# Altium schematic symbol library Diode.SchLib: 7 symbols
Pins are listed as number, name and electrical type; pins without a type are passive.

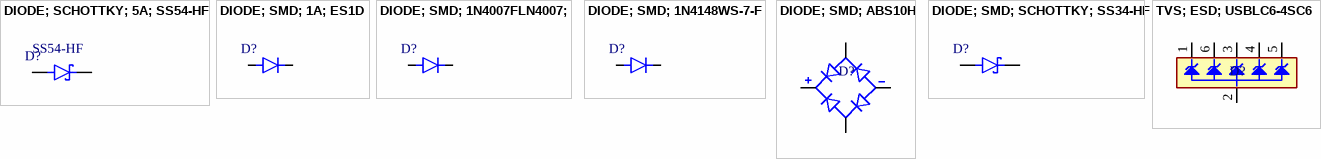
[diagram p0: symbols DIODE; SCHOTTKY; 5A; SS54-HF to TVS; ESD; USBLC6-4SC6]

## DIODE; SCHOTTKY; 5A; SS54-HF
designator D?, comment Manufacturer Part Number: SS54-HF  (hidden comment: Diode 40 V 5A Surface Mount DO-214AC (SMA))
Diode Schottky Si 40V 5A 2-Pin SMA T/R; Manufacturer: Comchip; Supplier: Digikey; Supplier Part Number: 641-SS54-HFCT-ND; RoHS: No; Category: LDO; Stock: 4664; Pricing: 1=0.6, 10=0.523, 100=0.3956, 500=0.31764, 1000=0.24715, 2000=0.23963 (USD); RoHS Compliant: Yes; ComponentLink1URL: http://www.comchiptech.com/admin/files/product/20190806165140.pdf?src-supplier=Digikey; ComponentLink1Description: http://www.comchiptech.com/admin/files/product/20190806165140.pdf?src-supplier=Digikey
footprint SMD-DO-214AC-214-CT
pins: 1 K, 2 A

## DIODE; SMD; 1A; ES1D
designator D?, comment Diode 200 V 1A Surface Mount DO-214AC (SMA)  (value not drawn)
Rectifier Diode Switching 200V 1A 35ns 2-Pin SMA; Manufacturer: Taiwan Semiconductor; Manufacturer Part Number: ES1D; Max Surge Current: 30A; Max Reverse Current: 5uA; Polarity: Standard; Value: 7pF; Forward Voltage: 920mV; Supplier: Digikey; Supplier Part Number: 1801-ES1DCT-ND; RoHS: Yes; Category: Rectifier Diodes; Stock: 13509; Pricing: 1=0.28, 10=0.19, 100=0.1376, 500=0.10806, 1000=0.09085, 2000=0.08883 (USD); Mounting Technology: Surface Mount; Case/Package: SMA; Pins: 2; Weight: 68mg; Min Operating Temperature: -55°C; Max Operating Temperature: 150°C; Package Quantity: 7500; Packaging: Tape and Reel; Recovery Time: 35ns; Forward Current: 1A; Max Repetitive Reverse Voltage (Vrrm): 200V; Reverse Recovery Time: 35ns; Voltage Rating (DC): 200V; Current Rating: 1A; Output Current: 1A; Reverse Voltage: 200V; Length: 4.6mm; Width: 2.83mm; Height: 2.5mm; Reach SVHC Compliant: Yes; Lead Free: Lead Free; RoHS Compliant: Yes; ComponentLink1URL: https://datasheet.ciiva.com/29316/162043-da-01-en-diode-es-1-d-tsc-sma-29316527.pdf?src-supplier=Conrad; ComponentLink1Description: https://datasheet.ciiva.com/29316/162043-da-01-en-diode-es-1-d-tsc-sma-29316527.pdf?src-supplier=Conrad
footprint DIODE-DO-214AC-TSC
pins: 1 C, 2 A

## DIODE; SMD; 1N4007FLN4007;
designator D?, comment Diode 1000 V 1A Surface Mount SOD-123FL  (value not drawn)
Diode Gen Purp 1KV 1A SOD123FL; Manufacturer: Sangdest Microelectronics; Manufacturer Part Number: 1N4007FL; Value: 6pF; Max Forward Surge Current (Ifsm): 30A; Max Reverse Current: 5uA; Designer: TVBac; Supplier: Digikey; Supplier Part Number: 1655-1N4007FLCT-ND; RoHS: No; Category: Diodes; Stock: 332632; Pricing: 1=0.1, 10=0.058, 100=0.039, 500=0.02954, 1000=0.02627 (USD); Min Operating Temperature: -55°C; Max Operating Temperature: 150°C; Forward Current: 1A; Max Repetitive Reverse Voltage (Vrrm): 1kV; Reverse Voltage: 1kV; Height: 1.1mm; ComponentLink1Description: Link Digikey; ComponentLink1URL: https://www.digikey.com/en/products/detail/smc-diode-solutions/1N4007FL/11657817
footprint SOD-123FL-SMCDS
pins: A, K

## DIODE; SMD; 1N4148WS-7-F
designator D?, comment Diode 75 V 150mA Surface Mount SOD-323  (value not drawn)
Small Signal Diode, 100V, SOD-323; Manufacturer: Diodes; Manufacturer Part Number: 1N4148WS-7-F; Max Surge Current: 2A; Forward Voltage: 1.25V; Forward Current: 300mA; Max Reverse Current: 1uA; Recovery Time: 4ns; Max Repetitive Reverse Voltage (Vrrm): 75V; Power Dissipation: 200mW; Polarity: Standard; Value: 2pF; Designer: TVBac; Supplier: Future Electronics; Supplier Part Number: 3369816; RoHS: Yes; Category: Rectifier Diodes; Stock: 3105000; Pricing: 3000=0.018, 12000=0.0172, 30000=0.0117, 45000=0.0165, 75000=0.0162, 120000=0.0109, 150000=0.0154 (USD); Mounting Technology: Surface Mount; Pins: 2; Weight: 0.000173oz; Min Operating Temperature: -65°C; Max Operating Temperature: 150°C; Packaging: Tape and Reel; Package Quantity: 3000; Average Rectified Current: 150mA; Reverse Recovery Time: 4ns; Peak Non-Repetitive Surge Current: 2A; Max Forward Surge Current (Ifsm): 2A; Voltage Rating (DC): 75V; Power Rating: 200mW; Current Rating: 150mA; Output Current: 150mA; Voltage: 75V; Max Reverse Voltage (DC): 75V; Series: -; Reverse Recovery Time-Max: 4ns; Length: 1.8mm; Width: 1.4mm; Height: 1mm; Radiation Hardening: No; Reach SVHC Compliant: No; Lead Free: Lead Free; RoHS Compliant: Yes; ComponentLink1URL: https://datasheet.ciiva.com/911/ds30097-911741.pdf?src-supplier=Digikey; ComponentLink1Description: https://datasheet.ciiva.com/911/ds30097-911741.pdf?src-supplier=Digikey; ComponentLink2URL: https://datasheet.ciiva.com/911/ds30097-911742.pdf?src-supplier=Digikey; ComponentLink2Description: https://datasheet.ciiva.com/911/ds30097-911742.pdf?src-supplier=Digikey; ComponentLink3URL: https://datasheet.ciiva.com/911/ds30097-911743.pdf?src-supplier=Digikey; ComponentLink3Description: https://datasheet.ciiva.com/911/ds30097-911743.pdf?src-supplier=Digikey; ComponentLink4URL: https://datasheet.ciiva.com/8300/ds30097-8300396.pdf?src-supplier=Avnet; ComponentLink4Description: https://datasheet.ciiva.com/8300/ds30097-8300396.pdf?src-supplier=Avnet; ComponentLink5URL: https://datasheet.ciiva.com/16199/ds30097-16199061.pdf?src-supplier=Future+Electronics; ComponentLink5Description: https://datasheet.ciiva.com/16199/ds30097-16199061.pdf?src-supplier=Future+Electronics; ComponentLink6URL: https://datasheet.ciiva.com/1179/ds30097-1179355.pdf?src-supplier=Element14; ComponentLink6Description: https://datasheet.ciiva.com/1179/ds30097-1179355.pdf?src-supplier=Element14; ComponentLink7Description: Link Digikey; ComponentLink7URL: https://www.digikey.com/en/products/detail/diodes-incorporated/1N4148WS-7-F/815127
footprint SMD-SOD-323-DI
pins: 1 C, 2 A

## DIODE; SMD; ABS10H
designator D?, comment Bridge Rectifier Single Phase Standard 1 kV Surface Mount ABS  (value not drawn)
Bridge Rectifiers 1A, 1000V, Standard Bridge Rectifier; Manufacturer: Taiwan Semiconductor; Manufacturer Part Number: ABS10H; Designer: TVBac; Supplier: Digikey; Supplier Part Number: 1801-ABS10HCT-ND; Stock: 4817; Pricing: 1=0.49, 10=0.33, 100=0.2241, 500=0.17496, 1000=0.15869, 2000=0.14481 (USD); ComponentLink1Description: Link Digikey; ComponentLink1URL: https://www.digikey.com/en/products/detail/taiwan-semiconductor-corporation/ABS10H/7366098
footprint DIODE-SMD-4-TSC
pins: AC1, AC2, NEG, POS

## DIODE; SMD; SCHOTTKY; SS34-HF
designator D?, comment Diode 40 V 3A Surface Mount DO-214AC (SMA)  (value not drawn)
Diode Schottky Si 40V 3A 2-Pin SMA T/R; Manufacturer: Comchip; Manufacturer Part Number: SS34-HF; Designer: TVBac; Supplier: Digikey; Supplier Part Number: 641-2115-1-ND; RoHS: Yes; Category: LDO; Stock: 65957; Pricing: 1=0.46, 10=0.325, 100=0.164, 500=0.14536, 1000=0.11312, 2000=0.10124 (USD); RoHS Compliant: Yes; ComponentLink1URL: http://www.comchiptech.com/admin/files/product/20190514101641.pdf?src-supplier=Digikey; ComponentLink1Description: http://www.comchiptech.com/admin/files/product/20190514101641.pdf?src-supplier=Digikey; ComponentLink2Description: Link Digikey; ComponentLink2URL: https://www.digikey.com/en/products/detail/comchip-technology/SS34-HF/10279693
footprint SMD-DO-214AC-214-CT
pins: 1 K, 2 A

## TVS; ESD; USBLC6-4SC6
designator D?, comment 4.5A 60W 12V 6V Unidirectional 5V SOT23-6 ESD and Surge Protection (TVS/ESD) ROHS  (value not drawn)
ESD Suppressor Diode Arrays Quad Uni-Dir 15kV@Air Gap/8kV@Contact Disc 6-Pin SOT-23; Manufacturer: STMicroelectronics; Manufacturer Part Number: USBLC6-4SC6; Number of Elements: 1; Value: 4pF; Operating Supply Voltage: 860mV; Number of Channels: 4; Clamping Voltage: 17V; Power Line Protection: Yes; Polarity: Unidirectional,Bidirectional; Leakage Current: 150nA; Peak Pulse Current: 5A; Test Current: 1mA; Max Breakdown Voltage: 10V; Max Reverse Leakage Current: 2uA; Interface: 224,1515Interface; Peak Pulse Power: 130W; Supplier: Mouser; Supplier Part Number: 511-USBLC6-4SC6; RoHS: Yes; Category: TVS Diodes; Stock: 35740; Pricing: 1=0.35, 10=0.233, 50=0.233, 100=0.169, 1000=0.112, 10000=0.094 (USD); Mounting Technology: Surface Mount; Case/Package: SOT-23; Pins: 6; Min Operating Temperature: -40°C; Max Operating Temperature: 125°C; Direction: Unidirectional; Packaging: Tape and Reel; Reverse Breakdown Voltage: 6V; Reverse Standoff Voltage: 5V; Min Breakdown Voltage: 6V; Breakdown Voltage: 6V; Termination: SMD/SMT; Working Voltage: 5V; ESD Protection: Yes; Voltage Rating (DC): 5V; Series: USB; Clamping Voltage-Max: 17V; Number of Unidirectional Channels: 4; Length: 3.05mm; Width: 1.75mm; Height: 1.3mm; Depth: 1.75mm; Radiation Hardening: No; Reach SVHC Compliant: No; Lead Free: Lead Free; RoHS Compliant: Yes; ComponentLink1URL: https://datasheet.ciiva.com/14186/usblc6-4-st-eng-tds-14186570.pdf?src-supplier=Distrelec; ComponentLink1Description: https://datasheet.ciiva.com/14186/usblc6-4-st-eng-tds-14186570.pdf?src-supplier=Distrelec; ComponentLink2URL: https://datasheet.ciiva.com/27052/1493951-27052291.pdf?src-supplier=Jameco; ComponentLink2Description: https://datasheet.ciiva.com/27052/1493951-27052291.pdf?src-supplier=Jameco; ComponentLink3URL: https://datasheet.ciiva.com/1220/48344-1220005.pdf?src-supplier=Newark; ComponentLink3Description: https://datasheet.ciiva.com/1220/48344-1220005.pdf?src-supplier=Newark; ComponentLink4URL: https://datasheet.ciiva.com/4507/cd00047494-112581-4507757.pdf?src-supplier=Mouser; ComponentLink4Description: https://datasheet.ciiva.com/4507/cd00047494-112581-4507757.pdf?src-supplier=Mouser; ComponentLink5URL: https://datasheet.ciiva.com/22685/1498406-22685833.pdf?src-supplier=Element14; ComponentLink5Description: https://datasheet.ciiva.com/22685/1498406-22685833.pdf?src-supplier=Element14; ComponentLink6URL: https://datasheet.ciiva.com/22692/1498406-22692454.pdf?src-supplier=Element14; ComponentLink6Description: https://datasheet.ciiva.com/22692/1498406-22692454.pdf?src-supplier=Element14
footprint DIODE-SOT23-6-STM
pins: 1, 2, 3, 4, 5, 6